# EAGLE library part SN74HC4066 (library sn74hc4066)
QUADRUPLE BILATERAL ANALOG SWITCH
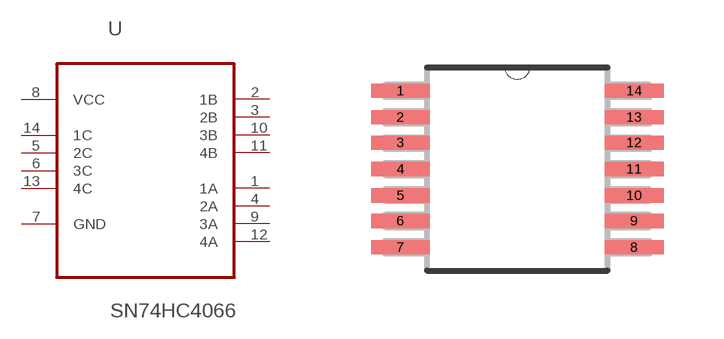
[diagram p0: symbol with the pads of SOP65P640X120-14N; footprint SOP65P640X120-14N]

Designator prefix U

## SN74HC4066 (AVAILABILITY: Unavailable; DESCRIPTION: Logic - Signal Switches Quadruple Bilateral Analog Switches; MF: Texas Instruments; MP: SN74HC4066PW; PACKAGE: TSSOP-14 Texas Instruments; PRICE: None)  [SOP65P640X120-14N]
1  1A  pas
2  1B  pas
3  2B  pas
4  2A  pas
5  2C  in
6  3C  in
7  GND  pas
8  VCC  pwr
9  3A  pas
10  3B  pas
11  4B  pas
12  4A  pas
13  4C  in
14  1C  in

## Footprint SOP65P640X120-14N (pad centres in mm)
smd 1.473 x 0.356: 1 -2.921,1.956; 2 -2.921,1.295; 3 -2.921,0.66; 4 -2.921,0; 5 -2.921,-0.66; 6 -2.921,-1.295; 7 -2.921,-1.956; 8 2.921,-1.956; 9 2.921,-1.295; 10 2.921,-0.66; 11 2.921,0; 12 2.921,0.66; 13 2.921,1.295; 14 2.921,1.956